# Altium footprint library lattice.PCBLIB: 10 footprints
Each footprint in its own frame and in the unit in brackets; x right, y up, seen from the top. Pads: shape width x height; smd on the part's side, far side on the other; paste and mask are expansions set on the pad; w line width, h text height; cw(c..) or ccw(c..) is an arc to the next point about the centre after c.
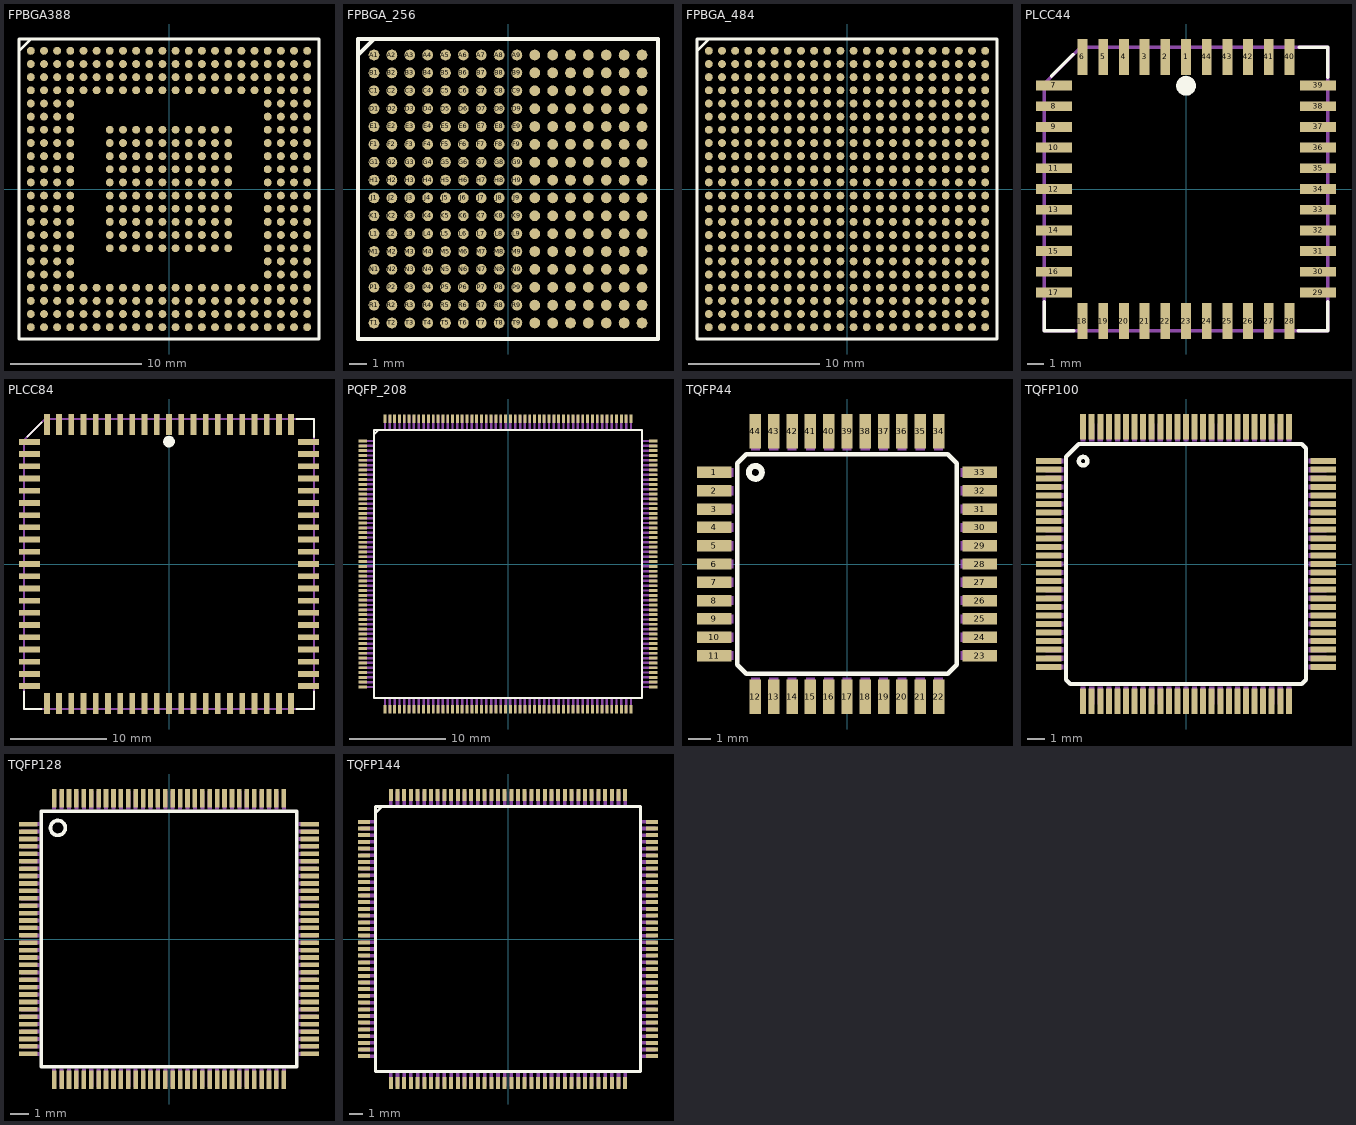
[diagram p0: the footprints below, top view; thin cyan lines are the x and y axes]

## FPBGA388 [mm]
pads (388):
  rrect100% 0.6x0.6 smd: A1(-10.5,10.5) A2(-9.5,10.5) A3(-8.5,10.5) A4(-7.5,10.5) A5(-6.5,10.5) A6(-5.5,10.5) A7(-4.5,10.5) A8(-3.5,10.5) A9(-2.5,10.5) A10(-1.5,10.5) A11(-0.5,10.5) A12(0.5,10.5) A13(1.5,10.5) A14(2.5,10.5) A15(3.5,10.5) A16(4.5,10.5) A17(5.5,10.5) A18(6.5,10.5) A19(7.5,10.5) A20(8.5,10.5) A21(9.5,10.5) A22(10.5,10.5) AA1(-10.5,-9.5) AA2(-9.5,-9.5) AA3(-8.5,-9.5) AA4(-7.5,-9.5) AA5(-6.5,-9.5) AA6(-5.5,-9.5) AA7(-4.5,-9.5) AA8(-3.5,-9.5) AA9(-2.5,-9.5) AA10(-1.5,-9.5) AA11(-0.5,-9.5) AA12(0.5,-9.5) AA13(1.5,-9.5) AA14(2.5,-9.5) AA15(3.5,-9.5) AA16(4.5,-9.5) AA17(5.5,-9.5) AA18(6.5,-9.5) AA19(7.5,-9.5) AA20(8.5,-9.5) AA21(9.5,-9.5) AA22(10.5,-9.5) AB1(-10.5,-10.5) AB2(-9.5,-10.5) AB3(-8.5,-10.5) AB4(-7.5,-10.5) AB5(-6.5,-10.5) AB6(-5.5,-10.5) AB7(-4.5,-10.5) AB8(-3.5,-10.5) AB9(-2.5,-10.5) AB10(-1.5,-10.5) AB11(-0.5,-10.5) AB12(0.5,-10.5) AB13(1.5,-10.5) AB14(2.5,-10.5) AB15(3.5,-10.5) AB16(4.5,-10.5) AB17(5.5,-10.5) AB18(6.5,-10.5) AB19(7.5,-10.5) AB20(8.5,-10.5) AB21(9.5,-10.5) AB22(10.5,-10.5) B1(-10.5,9.5) B2(-9.5,9.5) B3(-8.5,9.5) B4(-7.5,9.5) B5(-6.5,9.5) B6(-5.5,9.5) B7(-4.5,9.5) B8(-3.5,9.5) B9(-2.5,9.5) B10(-1.5,9.5) B11(-0.5,9.5) B12(0.5,9.5) B13(1.5,9.5) B14(2.5,9.5) B15(3.5,9.5) B16(4.5,9.5) B17(5.5,9.5) B18(6.5,9.5) B19(7.5,9.5) B20(8.5,9.5) B21(9.5,9.5) B22(10.5,9.5) C1(-10.5,8.5) C2(-9.5,8.5) C3(-8.5,8.5) C4(-7.5,8.5) C5(-6.5,8.5) C6(-5.5,8.5) C7(-4.5,8.5) C8(-3.5,8.5) C9(-2.5,8.5) C10(-1.5,8.5) C11(-0.5,8.5) C12(0.5,8.5) C13(1.5,8.5) C14(2.5,8.5) C15(3.5,8.5) C16(4.5,8.5) C17(5.5,8.5) C18(6.5,8.5) C19(7.5,8.5) C20(8.5,8.5) C21(9.5,8.5) C22(10.5,8.5) D1(-10.5,7.5) D2(-9.5,7.5) D3(-8.5,7.5) D4(-7.5,7.5) D5(-6.5,7.5) D6(-5.5,7.5) D7(-4.5,7.5) D8(-3.5,7.5) D9(-2.5,7.5) D10(-1.5,7.5) D11(-0.5,7.5) D12(0.5,7.5) D13(1.5,7.5) D14(2.5,7.5) D15(3.5,7.5) D16(4.5,7.5) D17(5.5,7.5) D18(6.5,7.5) D19(7.5,7.5) D20(8.5,7.5) D21(9.5,7.5) D22(10.5,7.5) E1(-10.5,6.5) E2(-9.5,6.5) E3(-8.5,6.5) E4(-7.5,6.5) E19(7.5,6.5) E20(8.5,6.5) E21(9.5,6.5) E22(10.5,6.5) F1(-10.5,5.5) F2(-9.5,5.5) F3(-8.5,5.5) F4(-7.5,5.5) F19(7.5,5.5) F20(8.5,5.5) F21(9.5,5.5) F22(10.5,5.5) G1(-10.5,4.5) G2(-9.5,4.5) G3(-8.5,4.5) G4(-7.5,4.5) G7(-4.5,4.5) G8(-3.5,4.5) G9(-2.5,4.5) G10(-1.5,4.5) G11(-0.5,4.5) G12(0.5,4.5) G13(1.5,4.5) G14(2.5,4.5) G15(3.5,4.5) G16(4.5,4.5) G19(7.5,4.5) G20(8.5,4.5) G21(9.5,4.5) G22(10.5,4.5) H1(-10.5,3.5) H2(-9.5,3.5) H3(-8.5,3.5) H4(-7.5,3.5) H7(-4.5,3.5) H8(-3.5,3.5) H9(-2.5,3.5) H10(-1.5,3.5) H11(-0.5,3.5) H12(0.5,3.5) H13(1.5,3.5) H14(2.5,3.5) H15(3.5,3.5) H16(4.5,3.5) H19(7.5,3.5) H20(8.5,3.5) H21(9.5,3.5) H22(10.5,3.5) J1(-10.5,2.5) J2(-9.5,2.5) J3(-8.5,2.5) J4(-7.5,2.5) J7(-4.5,2.5) J8(-3.5,2.5) J9(-2.5,2.5) J10(-1.5,2.5) J11(-0.5,2.5) J12(0.5,2.5) J13(1.5,2.5) J14(2.5,2.5) J15(3.5,2.5) J16(4.5,2.5) J19(7.5,2.5) J20(8.5,2.5) J21(9.5,2.5) J22(10.5,2.5) K1(-10.5,1.5) K2(-9.5,1.5) K3(-8.5,1.5) K4(-7.5,1.5) K7(-4.5,1.5) K8(-3.5,1.5) K9(-2.5,1.5) K10(-1.5,1.5) K11(-0.5,1.5) K12(0.5,1.5) K13(1.5,1.5) K14(2.5,1.5) K15(3.5,1.5) K16(4.5,1.5) K19(7.5,1.5) K20(8.5,1.5) K21(9.5,1.5) K22(10.5,1.5) L1(-10.5,0.5) L2(-9.5,0.5) L3(-8.5,0.5) L4(-7.5,0.5) L7(-4.5,0.5) L8(-3.5,0.5) L9(-2.5,0.5) L10(-1.5,0.5) L11(-0.5,0.5) L12(0.5,0.5) L13(1.5,0.5) L14(2.5,0.5) L15(3.5,0.5) L16(4.5,0.5) L19(7.5,0.5) L20(8.5,0.5) L21(9.5,0.5) L22(10.5,0.5) M1(-10.5,-0.5) M2(-9.5,-0.5) M3(-8.5,-0.5) M4(-7.5,-0.5) M7(-4.5,-0.5) M8(-3.5,-0.5) M9(-2.5,-0.5) M10(-1.5,-0.5) M11(-0.5,-0.5) M12(0.5,-0.5) M13(1.5,-0.5) M14(2.5,-0.5) M15(3.5,-0.5) M16(4.5,-0.5) M19(7.5,-0.5) M20(8.5,-0.5) M21(9.5,-0.5) M22(10.5,-0.5) N1(-10.5,-1.5) N2(-9.5,-1.5) N3(-8.5,-1.5) N4(-7.5,-1.5) N7(-4.5,-1.5) N8(-3.5,-1.5) N9(-2.5,-1.5) N10(-1.5,-1.5) N11(-0.5,-1.5) N12(0.5,-1.5) N13(1.5,-1.5) N14(2.5,-1.5) N15(3.5,-1.5) N16(4.5,-1.5) N19(7.5,-1.5) N20(8.5,-1.5) N21(9.5,-1.5) N22(10.5,-1.5) P1(-10.5,-2.5) P2(-9.5,-2.5) P3(-8.5,-2.5) P4(-7.5,-2.5) P7(-4.5,-2.5) P8(-3.5,-2.5) P9(-2.5,-2.5) P10(-1.5,-2.5) P11(-0.5,-2.5) P12(0.5,-2.5) P13(1.5,-2.5) P14(2.5,-2.5) P15(3.5,-2.5) P16(4.5,-2.5) P19(7.5,-2.5) P20(8.5,-2.5) P21(9.5,-2.5) P22(10.5,-2.5) R1(-10.5,-3.5) R2(-9.5,-3.5) R3(-8.5,-3.5) R4(-7.5,-3.5) R7(-4.5,-3.5) R8(-3.5,-3.5) R9(-2.5,-3.5) R10(-1.5,-3.5) R11(-0.5,-3.5) R12(0.5,-3.5) R13(1.5,-3.5) R14(2.5,-3.5) R15(3.5,-3.5) R16(4.5,-3.5) R19(7.5,-3.5) R20(8.5,-3.5) R21(9.5,-3.5) R22(10.5,-3.5) T1(-10.5,-4.5) T2(-9.5,-4.5) T3(-8.5,-4.5) T4(-7.5,-4.5) T7(-4.5,-4.5) T8(-3.5,-4.5) T9(-2.5,-4.5) T10(-1.5,-4.5) T11(-0.5,-4.5) T12(0.5,-4.5) T13(1.5,-4.5) T14(2.5,-4.5) T15(3.5,-4.5) T16(4.5,-4.5) T19(7.5,-4.5) T20(8.5,-4.5) T21(9.5,-4.5) T22(10.5,-4.5) U1(-10.5,-5.5) U2(-9.5,-5.5) U3(-8.5,-5.5) U4(-7.5,-5.5) U19(7.5,-5.5) U20(8.5,-5.5) U21(9.5,-5.5) U22(10.5,-5.5) V1(-10.5,-6.5) V2(-9.5,-6.5) V3(-8.5,-6.5) V4(-7.5,-6.5) V19(7.5,-6.5) V20(8.5,-6.5) V21(9.5,-6.5) V22(10.5,-6.5) W1(-10.5,-7.5) W2(-9.5,-7.5) W3(-8.5,-7.5) W4(-7.5,-7.5) W5(-6.5,-7.5) W6(-5.5,-7.5) W7(-4.5,-7.5) W8(-3.5,-7.5) W9(-2.5,-7.5) W10(-1.5,-7.5) W11(-0.5,-7.5) W12(0.5,-7.5) W13(1.5,-7.5) W14(2.5,-7.5) W15(3.5,-7.5) W16(4.5,-7.5) W17(5.5,-7.5) W18(6.5,-7.5) W19(7.5,-7.5) W20(8.5,-7.5) W21(9.5,-7.5) W22(10.5,-7.5) Y1(-10.5,-8.5) Y2(-9.5,-8.5) Y3(-8.5,-8.5) Y4(-7.5,-8.5) Y5(-6.5,-8.5) Y6(-5.5,-8.5) Y7(-4.5,-8.5) Y8(-3.5,-8.5) Y9(-2.5,-8.5) Y10(-1.5,-8.5) Y11(-0.5,-8.5) Y12(0.5,-8.5) Y13(1.5,-8.5) Y14(2.5,-8.5) Y15(3.5,-8.5) Y16(4.5,-8.5) Y17(5.5,-8.5) Y18(6.5,-8.5) Y19(7.5,-8.5) Y20(8.5,-8.5) Y21(9.5,-8.5) Y22(10.5,-8.5)
Top Overlay:
  lines w0.203: -11.399,10.5 -11.399,11.399 -10.5,11.399 ; -11.399,10.5 -11.399,-11.399 11.399,-11.399 11.399,11.399 -10.5,11.399 ; -11.399,10.5 -10.5,11.399
Top Solder:
  drawing of 388 lines, arcs and shapes, not listed

## FPBGA_256 [mm]
pads (256):
  rrect100% 0.6x0.6 smd: A1(-7.5,7.5) A2(-6.5,7.5) A3(-5.5,7.5) A4(-4.5,7.5) A5(-3.5,7.5) A6(-2.5,7.5) A7(-1.5,7.5) A8(-0.5,7.5) A9(0.5,7.5) A10(1.5,7.5) A11(2.5,7.5) A12(3.5,7.5) A13(4.5,7.5) A14(5.5,7.5) A15(6.5,7.5) A16(7.5,7.5) B1(-7.5,6.5) B2(-6.5,6.5) B3(-5.5,6.5) B4(-4.5,6.5) B5(-3.5,6.5) B6(-2.5,6.5) B7(-1.5,6.5) B8(-0.5,6.5) B9(0.5,6.5) B10(1.5,6.5) B11(2.5,6.5) B12(3.5,6.5) B13(4.5,6.5) B14(5.5,6.5) B15(6.5,6.5) B16(7.5,6.5) C1(-7.5,5.5) C2(-6.5,5.5) C3(-5.5,5.5) C4(-4.5,5.5) C5(-3.5,5.5) C6(-2.5,5.5) C7(-1.5,5.5) C8(-0.5,5.5) C9(0.5,5.5) C10(1.5,5.5) C11(2.5,5.5) C12(3.5,5.5) C13(4.5,5.5) C14(5.5,5.5) C15(6.5,5.5) C16(7.5,5.5) D1(-7.5,4.5) D2(-6.5,4.5) D3(-5.5,4.5) D4(-4.5,4.5) D5(-3.5,4.5) D6(-2.5,4.5) D7(-1.5,4.5) D8(-0.5,4.5) D9(0.5,4.5) D10(1.5,4.5) D11(2.5,4.5) D12(3.5,4.5) D13(4.5,4.5) D14(5.5,4.5) D15(6.5,4.5) D16(7.5,4.5) E1(-7.5,3.5) E2(-6.5,3.5) E3(-5.5,3.5) E4(-4.5,3.5) E5(-3.5,3.5) E6(-2.5,3.5) E7(-1.5,3.5) E8(-0.5,3.5) E9(0.5,3.5) E10(1.5,3.5) E11(2.5,3.5) E12(3.5,3.5) E13(4.5,3.5) E14(5.5,3.5) E15(6.5,3.5) E16(7.5,3.5) F1(-7.5,2.5) F2(-6.5,2.5) F3(-5.5,2.5) F4(-4.5,2.5) F5(-3.5,2.5) F6(-2.5,2.5) F7(-1.5,2.5) F8(-0.5,2.5) F9(0.5,2.5) F10(1.5,2.5) F11(2.5,2.5) F12(3.5,2.5) F13(4.5,2.5) F14(5.5,2.5) F15(6.5,2.5) F16(7.5,2.5) G1(-7.5,1.5) G2(-6.5,1.5) G3(-5.5,1.5) G4(-4.5,1.5) G5(-3.5,1.5) G6(-2.5,1.5) G7(-1.5,1.5) G8(-0.5,1.5) G9(0.5,1.5) G10(1.5,1.5) G11(2.5,1.5) G12(3.5,1.5) G13(4.5,1.5) G14(5.5,1.5) G15(6.5,1.5) G16(7.5,1.5) H1(-7.5,0.5) H2(-6.5,0.5) H3(-5.5,0.5) H4(-4.5,0.5) H5(-3.5,0.5) H6(-2.5,0.5) H7(-1.5,0.5) H8(-0.5,0.5) H9(0.5,0.5) H10(1.5,0.5) H11(2.5,0.5) H12(3.5,0.5) H13(4.5,0.5) H14(5.5,0.5) H15(6.5,0.5) H16(7.5,0.5) J1(-7.5,-0.5) J2(-6.5,-0.5) J3(-5.5,-0.5) J4(-4.5,-0.5) J5(-3.5,-0.5) J6(-2.5,-0.5) J7(-1.5,-0.5) J8(-0.5,-0.5) J9(0.5,-0.5) J10(1.5,-0.5) J11(2.5,-0.5) J12(3.5,-0.5) J13(4.5,-0.5) J14(5.5,-0.5) J15(6.5,-0.5) J16(7.5,-0.5) K1(-7.5,-1.5) K2(-6.5,-1.5) K3(-5.5,-1.5) K4(-4.5,-1.5) K5(-3.5,-1.5) K6(-2.5,-1.5) K7(-1.5,-1.5) K8(-0.5,-1.5) K9(0.5,-1.5) K10(1.5,-1.5) K11(2.5,-1.5) K12(3.5,-1.5) K13(4.5,-1.5) K14(5.5,-1.5) K15(6.5,-1.5) K16(7.5,-1.5) L1(-7.5,-2.5) L2(-6.5,-2.5) L3(-5.5,-2.5) L4(-4.5,-2.5) L5(-3.5,-2.5) L6(-2.5,-2.5) L7(-1.5,-2.5) L8(-0.5,-2.5) L9(0.5,-2.5) L10(1.5,-2.5) L11(2.5,-2.5) L12(3.5,-2.5) L13(4.5,-2.5) L14(5.5,-2.5) L15(6.5,-2.5) L16(7.5,-2.5) M1(-7.5,-3.5) M2(-6.5,-3.5) M3(-5.5,-3.5) M4(-4.5,-3.5) M5(-3.5,-3.5) M6(-2.5,-3.5) M7(-1.5,-3.5) M8(-0.5,-3.5) M9(0.5,-3.5) M10(1.5,-3.5) M11(2.5,-3.5) M12(3.5,-3.5) M13(4.5,-3.5) M14(5.5,-3.5) M15(6.5,-3.5) M16(7.5,-3.5) N1(-7.5,-4.5) N2(-6.5,-4.5) N3(-5.5,-4.5) N4(-4.5,-4.5) N5(-3.5,-4.5) N6(-2.5,-4.5) N7(-1.5,-4.5) N8(-0.5,-4.5) N9(0.5,-4.5) N10(1.5,-4.5) N11(2.5,-4.5) N12(3.5,-4.5) N13(4.5,-4.5) N14(5.5,-4.5) N15(6.5,-4.5) N16(7.5,-4.5) P1(-7.5,-5.5) P2(-6.5,-5.5) P3(-5.5,-5.5) P4(-4.5,-5.5) P5(-3.5,-5.5) P6(-2.5,-5.5) P7(-1.5,-5.5) P8(-0.5,-5.5) P9(0.5,-5.5) P10(1.5,-5.5) P11(2.5,-5.5) P12(3.5,-5.5) P13(4.5,-5.5) P14(5.5,-5.5) P15(6.5,-5.5) P16(7.5,-5.5) R1(-7.5,-6.5) R2(-6.5,-6.5) R3(-5.5,-6.5) R4(-4.5,-6.5) R5(-3.5,-6.5) R6(-2.5,-6.5) R7(-1.5,-6.5) R8(-0.5,-6.5) R9(0.5,-6.5) R10(1.5,-6.5) R11(2.5,-6.5) R12(3.5,-6.5) R13(4.5,-6.5) R14(5.5,-6.5) R15(6.5,-6.5) R16(7.5,-6.5) T1(-7.5,-7.5) T2(-6.5,-7.5) T3(-5.5,-7.5) T4(-4.5,-7.5) T5(-3.5,-7.5) T6(-2.5,-7.5) T7(-1.5,-7.5) T8(-0.5,-7.5) T9(0.5,-7.5) T10(1.5,-7.5) T11(2.5,-7.5) T12(3.5,-7.5) T13(4.5,-7.5) T14(5.5,-7.5) T15(6.5,-7.5) T16(7.5,-7.5)
Top Overlay:
  lines w0.203: -8.399,7.5 -7.5,8.399 ; -8.399,-8.399 8.399,-8.399 8.399,8.399 -8.399,8.399 -8.399,-8.399
Top Solder:
  drawing of 256 lines, arcs and shapes, not listed

## FPBGA_484 [mm]
pads (484):
  rrect100% 0.6x0.6 smd: A1(-10.5,10.5) A2(-9.5,10.5) A3(-8.5,10.5) A4(-7.5,10.5) A5(-6.5,10.5) A6(-5.5,10.5) A7(-4.5,10.5) A8(-3.5,10.5) A9(-2.5,10.5) A10(-1.5,10.5) A11(-0.5,10.5) A12(0.5,10.5) A13(1.5,10.5) A14(2.5,10.5) A15(3.5,10.5) A16(4.5,10.5) A17(5.5,10.5) A18(6.5,10.5) A19(7.5,10.5) A20(8.5,10.5) A21(9.5,10.5) A22(10.5,10.5) AA1(-10.5,-9.5) AA2(-9.5,-9.5) AA3(-8.5,-9.5) AA4(-7.5,-9.5) AA5(-6.5,-9.5) AA6(-5.5,-9.5) AA7(-4.5,-9.5) AA8(-3.5,-9.5) AA9(-2.5,-9.5) AA10(-1.5,-9.5) AA11(-0.5,-9.5) AA12(0.5,-9.5) AA13(1.5,-9.5) AA14(2.5,-9.5) AA15(3.5,-9.5) AA16(4.5,-9.5) AA17(5.5,-9.5) AA18(6.5,-9.5) AA19(7.5,-9.5) AA20(8.5,-9.5) AA21(9.5,-9.5) AA22(10.5,-9.5) AB1(-10.5,-10.5) AB2(-9.5,-10.5) AB3(-8.5,-10.5) AB4(-7.5,-10.5) AB5(-6.5,-10.5) AB6(-5.5,-10.5) AB7(-4.5,-10.5) AB8(-3.5,-10.5) AB9(-2.5,-10.5) AB10(-1.5,-10.5) AB11(-0.5,-10.5) AB12(0.5,-10.5) AB13(1.5,-10.5) AB14(2.5,-10.5) AB15(3.5,-10.5) AB16(4.5,-10.5) AB17(5.5,-10.5) AB18(6.5,-10.5) AB19(7.5,-10.5) AB20(8.5,-10.5) AB21(9.5,-10.5) AB22(10.5,-10.5) B1(-10.5,9.5) B2(-9.5,9.5) B3(-8.5,9.5) B4(-7.5,9.5) B5(-6.5,9.5) B6(-5.5,9.5) B7(-4.5,9.5) B8(-3.5,9.5) B9(-2.5,9.5) B10(-1.5,9.5) B11(-0.5,9.5) B12(0.5,9.5) B13(1.5,9.5) B14(2.5,9.5) B15(3.5,9.5) B16(4.5,9.5) B17(5.5,9.5) B18(6.5,9.5) B19(7.5,9.5) B20(8.5,9.5) B21(9.5,9.5) B22(10.5,9.5) C1(-10.5,8.5) C2(-9.5,8.5) C3(-8.5,8.5) C4(-7.5,8.5) C5(-6.5,8.5) C6(-5.5,8.5) C7(-4.5,8.5) C8(-3.5,8.5) C9(-2.5,8.5) C10(-1.5,8.5) C11(-0.5,8.5) C12(0.5,8.5) C13(1.5,8.5) C14(2.5,8.5) C15(3.5,8.5) C16(4.5,8.5) C17(5.5,8.5) C18(6.5,8.5) C19(7.5,8.5) C20(8.5,8.5) C21(9.5,8.5) C22(10.5,8.5) D1(-10.5,7.5) D2(-9.5,7.5) D3(-8.5,7.5) D4(-7.5,7.5) D5(-6.5,7.5) D6(-5.5,7.5) D7(-4.5,7.5) D8(-3.5,7.5) D9(-2.5,7.5) D10(-1.5,7.5) D11(-0.5,7.5) D12(0.5,7.5) D13(1.5,7.5) D14(2.5,7.5) D15(3.5,7.5) D16(4.5,7.5) D17(5.5,7.5) D18(6.5,7.5) D19(7.5,7.5) D20(8.5,7.5) D21(9.5,7.5) D22(10.5,7.5) E1(-10.5,6.5) E2(-9.5,6.5) E3(-8.5,6.5) E4(-7.5,6.5) E5(-6.5,6.5) E6(-5.5,6.5) E7(-4.5,6.5) E8(-3.5,6.5) E9(-2.5,6.5) E10(-1.5,6.5) E11(-0.5,6.5) E12(0.5,6.5) E13(1.5,6.5) E14(2.5,6.5) E15(3.5,6.5) E16(4.5,6.5) E17(5.5,6.5) E18(6.5,6.5) E19(7.5,6.5) E20(8.5,6.5) E21(9.5,6.5) E22(10.5,6.5) F1(-10.5,5.5) F2(-9.5,5.5) F3(-8.5,5.5) F4(-7.5,5.5) F5(-6.5,5.5) F6(-5.5,5.5) F7(-4.5,5.5) F8(-3.5,5.5) F9(-2.5,5.5) F10(-1.5,5.5) F11(-0.5,5.5) F12(0.5,5.5) F13(1.5,5.5) F14(2.5,5.5) F15(3.5,5.5) F16(4.5,5.5) F17(5.5,5.5) F18(6.5,5.5) F19(7.5,5.5) F20(8.5,5.5) F21(9.5,5.5) F22(10.5,5.5) G1(-10.5,4.5) G2(-9.5,4.5) G3(-8.5,4.5) G4(-7.5,4.5) G5(-6.5,4.5) G6(-5.5,4.5) G7(-4.5,4.5) G8(-3.5,4.5) G9(-2.5,4.5) G10(-1.5,4.5) G11(-0.5,4.5) G12(0.5,4.5) G13(1.5,4.5) G14(2.5,4.5) G15(3.5,4.5) G16(4.5,4.5) G17(5.5,4.5) G18(6.5,4.5) G19(7.5,4.5) G20(8.5,4.5) G21(9.5,4.5) G22(10.5,4.5) H1(-10.5,3.5) H2(-9.5,3.5) H3(-8.5,3.5) H4(-7.5,3.5) H5(-6.5,3.5) H6(-5.5,3.5) H7(-4.5,3.5) H8(-3.5,3.5) H9(-2.5,3.5) H10(-1.5,3.5) H11(-0.5,3.5) H12(0.5,3.5) H13(1.5,3.5) H14(2.5,3.5) H15(3.5,3.5) H16(4.5,3.5) H17(5.5,3.5) H18(6.5,3.5) H19(7.5,3.5) H20(8.5,3.5) H21(9.5,3.5) H22(10.5,3.5) J1(-10.5,2.5) J2(-9.5,2.5) J3(-8.5,2.5) J4(-7.5,2.5) J5(-6.5,2.5) J6(-5.5,2.5) J7(-4.5,2.5) J8(-3.5,2.5) J9(-2.5,2.5) J10(-1.5,2.5) J11(-0.5,2.5) J12(0.5,2.5) J13(1.5,2.5) J14(2.5,2.5) J15(3.5,2.5) J16(4.5,2.5) J17(5.5,2.5) J18(6.5,2.5) J19(7.5,2.5) J20(8.5,2.5) J21(9.5,2.5) J22(10.5,2.5) K1(-10.5,1.5) K2(-9.5,1.5) K3(-8.5,1.5) K4(-7.5,1.5) K5(-6.5,1.5) K6(-5.5,1.5) K7(-4.5,1.5) K8(-3.5,1.5) K9(-2.5,1.5) K10(-1.5,1.5) K11(-0.5,1.5) K12(0.5,1.5) K13(1.5,1.5) K14(2.5,1.5) K15(3.5,1.5) K16(4.5,1.5) K17(5.5,1.5) K18(6.5,1.5) K19(7.5,1.5) K20(8.5,1.5) K21(9.5,1.5) K22(10.5,1.5) L1(-10.5,0.5) L2(-9.5,0.5) L3(-8.5,0.5) L4(-7.5,0.5) L5(-6.5,0.5) L6(-5.5,0.5) L7(-4.5,0.5) L8(-3.5,0.5) L9(-2.5,0.5) L10(-1.5,0.5) L11(-0.5,0.5) L12(0.5,0.5) L13(1.5,0.5) L14(2.5,0.5) L15(3.5,0.5) L16(4.5,0.5) L17(5.5,0.5) L18(6.5,0.5) L19(7.5,0.5) L20(8.5,0.5) L21(9.5,0.5) L22(10.5,0.5) M1(-10.5,-0.5) M2(-9.5,-0.5) M3(-8.5,-0.5) M4(-7.5,-0.5) M5(-6.5,-0.5) M6(-5.5,-0.5) M7(-4.5,-0.5) M8(-3.5,-0.5) M9(-2.5,-0.5) M10(-1.5,-0.5) M11(-0.5,-0.5) M12(0.5,-0.5) M13(1.5,-0.5) M14(2.5,-0.5) M15(3.5,-0.5) M16(4.5,-0.5) M17(5.5,-0.5) M18(6.5,-0.5) M19(7.5,-0.5) M20(8.5,-0.5) M21(9.5,-0.5) M22(10.5,-0.5) N1(-10.5,-1.5) N2(-9.5,-1.5) N3(-8.5,-1.5) N4(-7.5,-1.5) N5(-6.5,-1.5) N6(-5.5,-1.5) N7(-4.5,-1.5) N8(-3.5,-1.5) N9(-2.5,-1.5) N10(-1.5,-1.5) N11(-0.5,-1.5) N12(0.5,-1.5) N13(1.5,-1.5) N14(2.5,-1.5) N15(3.5,-1.5) N16(4.5,-1.5) N17(5.5,-1.5) N18(6.5,-1.5) N19(7.5,-1.5) N20(8.5,-1.5) N21(9.5,-1.5) N22(10.5,-1.5) P1(-10.5,-2.5) P2(-9.5,-2.5) P3(-8.5,-2.5) P4(-7.5,-2.5) P5(-6.5,-2.5) P6(-5.5,-2.5) P7(-4.5,-2.5) P8(-3.5,-2.5) P9(-2.5,-2.5) P10(-1.5,-2.5) P11(-0.5,-2.5) P12(0.5,-2.5) P13(1.5,-2.5) P14(2.5,-2.5) P15(3.5,-2.5) P16(4.5,-2.5) P17(5.5,-2.5) P18(6.5,-2.5) P19(7.5,-2.5) P20(8.5,-2.5) P21(9.5,-2.5) P22(10.5,-2.5) R1(-10.5,-3.5) R2(-9.5,-3.5) R3(-8.5,-3.5) R4(-7.5,-3.5) R5(-6.5,-3.5) R6(-5.5,-3.5) R7(-4.5,-3.5) R8(-3.5,-3.5) R9(-2.5,-3.5) R10(-1.5,-3.5) R11(-0.5,-3.5) R12(0.5,-3.5) R13(1.5,-3.5) R14(2.5,-3.5) R15(3.5,-3.5) R16(4.5,-3.5) R17(5.5,-3.5) R18(6.5,-3.5) R19(7.5,-3.5) R20(8.5,-3.5) R21(9.5,-3.5) R22(10.5,-3.5) T1(-10.5,-4.5) T2(-9.5,-4.5) T3(-8.5,-4.5) T4(-7.5,-4.5) T5(-6.5,-4.5) T6(-5.5,-4.5) T7(-4.5,-4.5) T8(-3.5,-4.5) T9(-2.5,-4.5) T10(-1.5,-4.5) T11(-0.5,-4.5) T12(0.5,-4.5) T13(1.5,-4.5) T14(2.5,-4.5) T15(3.5,-4.5) T16(4.5,-4.5) T17(5.5,-4.5) T18(6.5,-4.5) T19(7.5,-4.5) T20(8.5,-4.5) T21(9.5,-4.5) T22(10.5,-4.5) U1(-10.5,-5.5) U2(-9.5,-5.5) U3(-8.5,-5.5) U4(-7.5,-5.5) U5(-6.5,-5.5) U6(-5.5,-5.5) U7(-4.5,-5.5) U8(-3.5,-5.5) U9(-2.5,-5.5) U10(-1.5,-5.5) U11(-0.5,-5.5) U12(0.5,-5.5) U13(1.5,-5.5) U14(2.5,-5.5) U15(3.5,-5.5) U16(4.5,-5.5) U17(5.5,-5.5) U18(6.5,-5.5) U19(7.5,-5.5) U20(8.5,-5.5) U21(9.5,-5.5) U22(10.5,-5.5) V1(-10.5,-6.5) V2(-9.5,-6.5) V3(-8.5,-6.5) V4(-7.5,-6.5) V5(-6.5,-6.5) V6(-5.5,-6.5) V7(-4.5,-6.5) V8(-3.5,-6.5) V9(-2.5,-6.5) V10(-1.5,-6.5) V11(-0.5,-6.5) V12(0.5,-6.5) V13(1.5,-6.5) V14(2.5,-6.5) V15(3.5,-6.5) V16(4.5,-6.5) V17(5.5,-6.5) V18(6.5,-6.5) V19(7.5,-6.5) V20(8.5,-6.5) V21(9.5,-6.5) V22(10.5,-6.5) W1(-10.5,-7.5) W2(-9.5,-7.5) W3(-8.5,-7.5) W4(-7.5,-7.5) W5(-6.5,-7.5) W6(-5.5,-7.5) W7(-4.5,-7.5) W8(-3.5,-7.5) W9(-2.5,-7.5) W10(-1.5,-7.5) W11(-0.5,-7.5) W12(0.5,-7.5) W13(1.5,-7.5) W14(2.5,-7.5) W15(3.5,-7.5) W16(4.5,-7.5) W17(5.5,-7.5) W18(6.5,-7.5) W19(7.5,-7.5) W20(8.5,-7.5) W21(9.5,-7.5) W22(10.5,-7.5) Y1(-10.5,-8.5) Y2(-9.5,-8.5) Y3(-8.5,-8.5) Y4(-7.5,-8.5) Y5(-6.5,-8.5) Y6(-5.5,-8.5) Y7(-4.5,-8.5) Y8(-3.5,-8.5) Y9(-2.5,-8.5) Y10(-1.5,-8.5) Y11(-0.5,-8.5) Y12(0.5,-8.5) Y13(1.5,-8.5) Y14(2.5,-8.5) Y15(3.5,-8.5) Y16(4.5,-8.5) Y17(5.5,-8.5) Y18(6.5,-8.5) Y19(7.5,-8.5) Y20(8.5,-8.5) Y21(9.5,-8.5) Y22(10.5,-8.5)
Top Overlay:
  lines w0.203: -11.399,10.5 -11.399,11.399 -10.5,11.399 ; -11.399,10.5 -11.399,-11.399 11.399,-11.399 11.399,11.399 -10.5,11.399 ; -11.399,10.5 -10.5,11.399
Top Solder:
  drawing of 484 lines, arcs and shapes, not listed

## PLCC44 [mm]
pads (44):
  rect 0.6x2.2 smd: 1(0,8.1) 2(-1.27,8.1) 3(-2.54,8.1) 4(-3.81,8.1) 5(-5.08,8.1) 6(-6.35,8.1) 18(-6.35,-8.1) 19(-5.08,-8.1) 20(-3.81,-8.1) 21(-2.54,-8.1) 22(-1.27,-8.1) 23(0,-8.1) 24(1.27,-8.1) 25(2.54,-8.1) 26(3.81,-8.1) 27(5.08,-8.1) 28(6.35,-8.1) 40(6.35,8.1) 41(5.08,8.1) 42(3.81,8.1) 43(2.54,8.1) 44(1.27,8.1)
  rect 2.2x0.6 smd: 7(-8.1,6.35) 8(-8.1,5.08) 9(-8.1,3.81) 10(-8.1,2.54) 11(-8.1,1.27) 12(-8.1,0) 13(-8.1,-1.27) 14(-8.1,-2.54) 15(-8.1,-3.81) 16(-8.1,-5.08) 17(-8.1,-6.35) 29(8.1,-6.35) 30(8.1,-5.08) 31(8.1,-3.81) 32(8.1,-2.54) 33(8.1,-1.27) 34(8.1,0) 35(8.1,1.27) 36(8.1,2.54) 37(8.1,3.81) 38(8.1,5.08) 39(8.1,6.35)
Top Overlay:
  circle w0.61: c0,6.33 r0.3
  lines w0.203: -8.687,-6.909 -8.687,-8.687 -6.883,-8.687 ; -8.255,6.909 -6.909,8.255 ; 6.883,-8.687 8.687,-8.687 8.687,-6.909 ; 6.934,8.687 8.687,8.687 8.687,6.858
Mechanical 16:
  rectangle: -0.26,8.75 0.26,9.2
  rectangle: -1.53,8.75 -1.01,9.2
  rectangle: -2.8,8.75 -2.28,9.2
  rectangle: -4.07,8.75 -3.55,9.2
  rectangle: -5.34,8.75 -4.82,9.2
  rectangle: -6.61,8.75 -6.09,9.2
  rectangle: -9.2,6.09 -8.75,6.61
  rectangle: -9.2,4.82 -8.75,5.34
  rectangle: -9.2,3.55 -8.75,4.07
  rectangle: -9.2,2.28 -8.75,2.8
  rectangle: -9.2,1.01 -8.75,1.53
  rectangle: -9.2,-0.26 -8.75,0.26
  rectangle: -9.2,-1.53 -8.75,-1.01
  rectangle: -9.2,-2.8 -8.75,-2.28
  rectangle: -9.2,-4.07 -8.75,-3.55
  rectangle: -9.2,-5.34 -8.75,-4.82
  rectangle: -9.2,-6.61 -8.75,-6.09
  rectangle: -6.61,-9.2 -6.09,-8.75
  rectangle: -5.34,-9.2 -4.82,-8.75
  rectangle: -4.07,-9.2 -3.55,-8.75
  rectangle: -2.8,-9.2 -2.28,-8.75
  rectangle: -1.53,-9.2 -1.01,-8.75
  rectangle: -0.26,-9.2 0.26,-8.75
  rectangle: 1.01,-9.2 1.53,-8.75
  rectangle: 2.28,-9.2 2.8,-8.75
  rectangle: 3.55,-9.2 4.07,-8.75
  rectangle: 4.82,-9.2 5.34,-8.75
  rectangle: 6.09,-9.2 6.61,-8.75
  rectangle: 8.75,-6.61 9.2,-6.09
  rectangle: 8.75,-5.34 9.2,-4.82
  rectangle: 8.75,-4.07 9.2,-3.55
  rectangle: 8.75,-2.8 9.2,-2.28
  rectangle: 8.75,-1.53 9.2,-1.01
  rectangle: 8.75,-0.26 9.2,0.26
  rectangle: 8.75,1.01 9.2,1.53
  rectangle: 8.75,2.28 9.2,2.8
  rectangle: 8.75,3.55 9.2,4.07
  rectangle: 8.75,4.82 9.2,5.34
  rectangle: 8.75,6.09 9.2,6.61
  rectangle: 6.09,8.75 6.61,9.2
  rectangle: 4.82,8.75 5.34,9.2
  rectangle: 3.55,8.75 4.07,9.2
  rectangle: 2.28,8.75 2.8,9.2
  rectangle: 1.01,8.75 1.53,9.2
  lines w0.203: -8.7,-8.7 -8.7,6.465 -6.465,8.7 8.7,8.7 8.7,-8.7 -8.7,-8.7

## PLCC84 [mm]
pads (84):
  rect 0.6x2.2 smd: 1(0,14.5) 2(-1.27,14.5) 3(-2.54,14.5) 4(-3.81,14.5) 5(-5.08,14.5) 6(-6.35,14.5) 7(-7.62,14.5) 8(-8.89,14.5) 9(-10.16,14.5) 10(-11.43,14.5) 11(-12.7,14.5) 33(-12.7,-14.5) 34(-11.43,-14.5) 35(-10.16,-14.5) 36(-8.89,-14.5) 37(-7.62,-14.5) 38(-6.35,-14.5) 39(-5.08,-14.5) 40(-3.81,-14.5) 41(-2.54,-14.5) 42(-1.27,-14.5) 43(0,-14.5) 44(1.27,-14.5) 45(2.54,-14.5) 46(3.81,-14.5) 47(5.08,-14.5) 48(6.35,-14.5) 49(7.62,-14.5) 50(8.89,-14.5) 51(10.16,-14.5) 52(11.43,-14.5) 53(12.7,-14.5) 75(12.7,14.5) 76(11.43,14.5) 77(10.16,14.5) 78(8.89,14.5) 79(7.62,14.5) 80(6.35,14.5) 81(5.08,14.5) 82(3.81,14.5) 83(2.54,14.5) 84(1.27,14.5)
  rect 2.2x0.6 smd: 12(-14.5,12.7) 13(-14.5,11.43) 14(-14.5,10.16) 15(-14.5,8.89) 16(-14.5,7.62) 17(-14.5,6.35) 18(-14.5,5.08) 19(-14.5,3.81) 20(-14.5,2.54) 21(-14.5,1.27) 22(-14.5,0) 23(-14.5,-1.27) 24(-14.5,-2.54) 25(-14.5,-3.81) 26(-14.5,-5.08) 27(-14.5,-6.35) 28(-14.5,-7.62) 29(-14.5,-8.89) 30(-14.5,-10.16) 31(-14.5,-11.43) 32(-14.5,-12.7) 54(14.5,-12.7) 55(14.5,-11.43) 56(14.5,-10.16) 57(14.5,-8.89) 58(14.5,-7.62) 59(14.5,-6.35) 60(14.5,-5.08) 61(14.5,-3.81) 62(14.5,-2.54) 63(14.5,-1.27) 64(14.5,0) 65(14.5,1.27) 66(14.5,2.54) 67(14.5,3.81) 68(14.5,5.08) 69(14.5,6.35) 70(14.5,7.62) 71(14.5,8.89) 72(14.5,10.16) 73(14.5,11.43) 74(14.5,12.7)
Top Overlay:
  circle w0.61: c0,12.73 r0.3
  lines w0.203: -15.088,-13.233 -15.088,-15.088 -13.259,-15.088 ; -14.732,13.233 -13.233,14.732 ; 13.233,-15.088 15.088,-15.088 15.088,-13.233 ; 13.233,15.088 15.088,15.088 15.088,13.208
Mechanical 16:
  rectangle: -0.26,15.15 0.26,15.6
  rectangle: -1.53,15.15 -1.01,15.6
  rectangle: -2.8,15.15 -2.28,15.6
  rectangle: -4.07,15.15 -3.55,15.6
  rectangle: -5.34,15.15 -4.82,15.6
  rectangle: -6.61,15.15 -6.09,15.6
  rectangle: -7.88,15.15 -7.36,15.6
  rectangle: -9.15,15.15 -8.63,15.6
  rectangle: -10.42,15.15 -9.9,15.6
  rectangle: -11.69,15.15 -11.17,15.6
  rectangle: -12.96,15.15 -12.44,15.6
  rectangle: -15.6,12.44 -15.15,12.96
  rectangle: -15.6,11.17 -15.15,11.69
  rectangle: -15.6,9.9 -15.15,10.42
  rectangle: -15.6,8.63 -15.15,9.15
  rectangle: -15.6,7.36 -15.15,7.88
  rectangle: -15.6,6.09 -15.15,6.61
  rectangle: -15.6,4.82 -15.15,5.34
  rectangle: -15.6,3.55 -15.15,4.07
  rectangle: -15.6,2.28 -15.15,2.8
  rectangle: -15.6,1.01 -15.15,1.53
  rectangle: -15.6,-0.26 -15.15,0.26
  rectangle: -15.6,-1.53 -15.15,-1.01
  rectangle: -15.6,-2.8 -15.15,-2.28
  rectangle: -15.6,-4.07 -15.15,-3.55
  rectangle: -15.6,-5.34 -15.15,-4.82
  rectangle: -15.6,-6.61 -15.15,-6.09
  rectangle: -15.6,-7.88 -15.15,-7.36
  rectangle: -15.6,-9.15 -15.15,-8.63
  rectangle: -15.6,-10.42 -15.15,-9.9
  rectangle: -15.6,-11.69 -15.15,-11.17
  rectangle: -15.6,-12.96 -15.15,-12.44
  rectangle: -12.96,-15.6 -12.44,-15.15
  rectangle: -11.69,-15.6 -11.17,-15.15
  rectangle: -10.42,-15.6 -9.9,-15.15
  rectangle: -9.15,-15.6 -8.63,-15.15
  rectangle: -7.88,-15.6 -7.36,-15.15
  rectangle: -6.61,-15.6 -6.09,-15.15
  rectangle: -5.34,-15.6 -4.82,-15.15
  rectangle: -4.07,-15.6 -3.55,-15.15
  rectangle: -2.8,-15.6 -2.28,-15.15
  rectangle: -1.53,-15.6 -1.01,-15.15
  rectangle: -0.26,-15.6 0.26,-15.15
  rectangle: 1.01,-15.6 1.53,-15.15
  rectangle: 2.28,-15.6 2.8,-15.15
  rectangle: 3.55,-15.6 4.07,-15.15
  rectangle: 4.82,-15.6 5.34,-15.15
  rectangle: 6.09,-15.6 6.61,-15.15
  rectangle: 7.36,-15.6 7.88,-15.15
  rectangle: 8.63,-15.6 9.15,-15.15
  rectangle: 9.9,-15.6 10.42,-15.15
  rectangle: 11.17,-15.6 11.69,-15.15
  rectangle: 12.44,-15.6 12.96,-15.15
  rectangle: 15.15,-12.96 15.6,-12.44
  rectangle: 15.15,-11.69 15.6,-11.17
  rectangle: 15.15,-10.42 15.6,-9.9
  rectangle: 15.15,-9.15 15.6,-8.63
  rectangle: 15.15,-7.88 15.6,-7.36
  rectangle: 15.15,-6.61 15.6,-6.09
  rectangle: 15.15,-5.34 15.6,-4.82
  rectangle: 15.15,-4.07 15.6,-3.55
  rectangle: 15.15,-2.8 15.6,-2.28
  rectangle: 15.15,-1.53 15.6,-1.01
  rectangle: 15.15,-0.26 15.6,0.26
  rectangle: 15.15,1.01 15.6,1.53
  rectangle: 15.15,2.28 15.6,2.8
  rectangle: 15.15,3.55 15.6,4.07
  rectangle: 15.15,4.82 15.6,5.34
  rectangle: 15.15,6.09 15.6,6.61
  rectangle: 15.15,7.36 15.6,7.88
  rectangle: 15.15,8.63 15.6,9.15
  rectangle: 15.15,9.9 15.6,10.42
  rectangle: 15.15,11.17 15.6,11.69
  rectangle: 15.15,12.44 15.6,12.96
  rectangle: 12.44,15.15 12.96,15.6
  rectangle: 11.17,15.15 11.69,15.6
  rectangle: 9.9,15.15 10.42,15.6
  rectangle: 8.63,15.15 9.15,15.6
  rectangle: 7.36,15.15 7.88,15.6
  rectangle: 6.09,15.15 6.61,15.6
  rectangle: 4.82,15.15 5.34,15.6
  rectangle: 3.55,15.15 4.07,15.6
  rectangle: 2.28,15.15 2.8,15.6
  rectangle: 1.01,15.15 1.53,15.6
  lines w0.203: -15.1,-15.1 -15.1,12.865 -12.865,15.1 15.1,15.1 15.1,-15.1 -15.1,-15.1

## PQFP_208 [mm]
pads (208):
  rect 0.9x0.3 smd: 1(-15.05,12.75) 2(-15.05,12.25) 3(-15.05,11.75) 4(-15.05,11.25) 5(-15.05,10.75) 6(-15.05,10.25) 7(-15.05,9.75) 8(-15.05,9.25) 9(-15.05,8.75) 10(-15.05,8.25) 11(-15.05,7.75) 12(-15.05,7.25) 13(-15.05,6.75) 14(-15.05,6.25) 15(-15.05,5.75) 16(-15.05,5.25) 17(-15.05,4.75) 18(-15.05,4.25) 19(-15.05,3.75) 20(-15.05,3.25) 21(-15.05,2.75) 22(-15.05,2.25) 23(-15.05,1.75) 24(-15.05,1.25) 25(-15.05,0.75) 26(-15.05,0.25) 27(-15.05,-0.25) 28(-15.05,-0.75) 29(-15.05,-1.25) 30(-15.05,-1.75) 31(-15.05,-2.25) 32(-15.05,-2.75) 33(-15.05,-3.25) 34(-15.05,-3.75) 35(-15.05,-4.25) 36(-15.05,-4.75) 37(-15.05,-5.25) 38(-15.05,-5.75) 39(-15.05,-6.25) 40(-15.05,-6.75) 41(-15.05,-7.25) 42(-15.05,-7.75) 43(-15.05,-8.25) 44(-15.05,-8.75) 45(-15.05,-9.25) 46(-15.05,-9.75) 47(-15.05,-10.25) 48(-15.05,-10.75) 49(-15.05,-11.25) 50(-15.05,-11.75) 51(-15.05,-12.25) 52(-15.05,-12.75) 105(15.05,-12.75) 106(15.05,-12.25) 107(15.05,-11.75) 108(15.05,-11.25) 109(15.05,-10.75) 110(15.05,-10.25) 111(15.05,-9.75) 112(15.05,-9.25) 113(15.05,-8.75) 114(15.05,-8.25) 115(15.05,-7.75) 116(15.05,-7.25) 117(15.05,-6.75) 118(15.05,-6.25) 119(15.05,-5.75) 120(15.05,-5.25) 121(15.05,-4.75) 122(15.05,-4.25) 123(15.05,-3.75) 124(15.05,-3.25) 125(15.05,-2.75) 126(15.05,-2.25) 127(15.05,-1.75) 128(15.05,-1.25) 129(15.05,-0.75) 130(15.05,-0.25) 131(15.05,0.25) 132(15.05,0.75) 133(15.05,1.25) 134(15.05,1.75) 135(15.05,2.25) 136(15.05,2.75) 137(15.05,3.25) 138(15.05,3.75) 139(15.05,4.25) 140(15.05,4.75) 141(15.05,5.25) 142(15.05,5.75) 143(15.05,6.25) 144(15.05,6.75) 145(15.05,7.25) 146(15.05,7.75) 147(15.05,8.25) 148(15.05,8.75) 149(15.05,9.25) 150(15.05,9.75) 151(15.05,10.25) 152(15.05,10.75) 153(15.05,11.25) 154(15.05,11.75) 155(15.05,12.25) 156(15.05,12.75)
  rect 0.3x0.9 smd: 53(-12.75,-15.05) 54(-12.25,-15.05) 55(-11.75,-15.05) 56(-11.25,-15.05) 57(-10.75,-15.05) 58(-10.25,-15.05) 59(-9.75,-15.05) 60(-9.25,-15.05) 61(-8.75,-15.05) 62(-8.25,-15.05) 63(-7.75,-15.05) 64(-7.25,-15.05) 65(-6.75,-15.05) 66(-6.25,-15.05) 67(-5.75,-15.05) 68(-5.25,-15.05) 69(-4.75,-15.05) 70(-4.25,-15.05) 71(-3.75,-15.05) 72(-3.25,-15.05) 73(-2.75,-15.05) 74(-2.25,-15.05) 75(-1.75,-15.05) 76(-1.25,-15.05) 77(-0.75,-15.05) 78(-0.25,-15.05) 79(0.25,-15.05) 80(0.75,-15.05) 81(1.25,-15.05) 82(1.75,-15.05) 83(2.25,-15.05) 84(2.75,-15.05) 85(3.25,-15.05) 86(3.75,-15.05) 87(4.25,-15.05) 88(4.75,-15.05) 89(5.25,-15.05) 90(5.75,-15.05) 91(6.25,-15.05) 92(6.75,-15.05) 93(7.25,-15.05) 94(7.75,-15.05) 95(8.25,-15.05) 96(8.75,-15.05) 97(9.25,-15.05) 98(9.75,-15.05) 99(10.25,-15.05) 100(10.75,-15.05) 101(11.25,-15.05) 102(11.75,-15.05) 103(12.25,-15.05) 104(12.75,-15.05) 157(12.75,15.05) 158(12.25,15.05) 159(11.75,15.05) 160(11.25,15.05) 161(10.75,15.05) 162(10.25,15.05) 163(9.75,15.05) 164(9.25,15.05) 165(8.75,15.05) 166(8.25,15.05) 167(7.75,15.05) 168(7.25,15.05) 169(6.75,15.05) 170(6.25,15.05) 171(5.75,15.05) 172(5.25,15.05) 173(4.75,15.05) 174(4.25,15.05) 175(3.75,15.05) 176(3.25,15.05) 177(2.75,15.05) 178(2.25,15.05) 179(1.75,15.05) 180(1.25,15.05) 181(0.75,15.05) 182(0.25,15.05) 183(-0.25,15.05) 184(-0.75,15.05) 185(-1.25,15.05) 186(-1.75,15.05) 187(-2.25,15.05) 188(-2.75,15.05) 189(-3.25,15.05) 190(-3.75,15.05) 191(-4.25,15.05) 192(-4.75,15.05) 193(-5.25,15.05) 194(-5.75,15.05) 195(-6.25,15.05) 196(-6.75,15.05) 197(-7.25,15.05) 198(-7.75,15.05) 199(-8.25,15.05) 200(-8.75,15.05) 201(-9.25,15.05) 202(-9.75,15.05) 203(-10.25,15.05) 204(-10.75,15.05) 205(-11.25,15.05) 206(-11.75,15.05) 207(-12.25,15.05) 208(-12.75,15.05)
Top Overlay:
  lines w0.203: -13.898,13.4 -13.4,13.898 ; -13.898,-13.898 13.898,-13.873 13.898,13.898 -13.898,13.898 -13.898,-13.898
Top Paste:
  drawing of 208 lines, arcs and shapes, not listed
Top Solder:
  drawing of 208 lines, arcs and shapes, not listed
Mechanical 16:
  drawing of 208 lines, arcs and shapes, not listed

## TQFP44 [mm]
pads (44):
  rect 1.5x0.5 smd: 1(-5.8,4) 2(-5.8,3.2) 3(-5.8,2.4) 4(-5.8,1.6) 5(-5.8,0.8) 6(-5.8,0) 7(-5.8,-0.8) 8(-5.8,-1.6) 9(-5.8,-2.4) 10(-5.8,-3.2) 11(-5.8,-4) 23(5.8,-4) 24(5.8,-3.2) 25(5.8,-2.4) 26(5.8,-1.6) 27(5.8,-0.8) 28(5.8,0) 29(5.8,0.8) 30(5.8,1.6) 31(5.8,2.4) 32(5.8,3.2) 33(5.8,4)
  rect 0.5x1.5 smd: 12(-4,-5.8) 13(-3.2,-5.8) 14(-2.4,-5.8) 15(-1.6,-5.8) 16(-0.8,-5.8) 17(0,-5.8) 18(0.8,-5.8) 19(1.6,-5.8) 20(2.4,-5.8) 21(3.2,-5.8) 22(4,-5.8) 34(4,5.8) 35(3.2,5.8) 36(2.4,5.8) 37(1.6,5.8) 38(0.8,5.8) 39(0,5.8) 40(-0.8,5.8) 41(-1.6,5.8) 42(-2.4,5.8) 43(-3.2,5.8) 44(-4,5.8)
Top Overlay:
  circle w0.254: c-4,4 r0.283
  lines w0.203: -4.8,-4.4 -4.4,-4.8 4.4,-4.8 4.8,-4.4 4.8,4.4 4.4,4.8 -4.4,4.8 -4.8,4.4 -4.8,-4.4
Mechanical 16:
  rectangle: -6.1,3.8 -4.95,4.2
  rectangle: -6.1,3 -4.95,3.4
  rectangle: -6.1,2.2 -4.95,2.6
  rectangle: -6.1,1.4 -4.95,1.8
  rectangle: -6.1,0.6 -4.95,1
  rectangle: -6.1,-0.2 -4.95,0.2
  rectangle: -6.1,-1 -4.95,-0.6
  rectangle: -6.1,-1.8 -4.95,-1.4
  rectangle: -6.1,-2.6 -4.95,-2.2
  rectangle: -6.1,-3.4 -4.95,-3
  rectangle: -6.1,-4.2 -4.95,-3.8
  rectangle: -4.2,-6.1 -3.8,-4.95
  rectangle: -3.4,-6.1 -3,-4.95
  rectangle: -2.6,-6.1 -2.2,-4.95
  rectangle: -1.8,-6.1 -1.4,-4.95
  rectangle: -1,-6.1 -0.6,-4.95
  rectangle: -0.2,-6.1 0.2,-4.95
  rectangle: 0.6,-6.1 1,-4.95
  rectangle: 1.4,-6.1 1.8,-4.95
  rectangle: 2.2,-6.1 2.6,-4.95
  rectangle: 3,-6.1 3.4,-4.95
  rectangle: 3.8,-6.1 4.2,-4.95
  rectangle: 4.95,-4.2 6.1,-3.8
  rectangle: 4.95,-3.4 6.1,-3
  rectangle: 4.95,-2.6 6.1,-2.2
  rectangle: 4.95,-1.8 6.1,-1.4
  rectangle: 4.95,-1 6.1,-0.6
  rectangle: 4.95,-0.2 6.1,0.2
  rectangle: 4.95,0.6 6.1,1
  rectangle: 4.95,1.4 6.1,1.8
  rectangle: 4.95,2.2 6.1,2.6
  rectangle: 4.95,3 6.1,3.4
  rectangle: 4.95,3.8 6.1,4.2
  rectangle: 3.8,4.95 4.2,6.1
  rectangle: 3,4.95 3.4,6.1
  rectangle: 2.2,4.95 2.6,6.1
  rectangle: 1.4,4.95 1.8,6.1
  rectangle: 0.6,4.95 1,6.1
  rectangle: -0.2,4.95 0.2,6.1
  rectangle: -1,4.95 -0.6,6.1
  rectangle: -1.8,4.95 -1.4,6.1
  rectangle: -2.6,4.95 -2.2,6.1
  rectangle: -3.4,4.95 -3,6.1
  rectangle: -4.2,4.95 -3.8,6.1

## TQFP100 [mm]
pads (100):
  rect 1.5x0.35 smd: 1(-8,6) 2(-8,5.5) 3(-8,5) 4(-8,4.5) 5(-8,4) 6(-8,3.5) 7(-8,3) 8(-8,2.5) 9(-8,2) 10(-8,1.5) 11(-8,1) 12(-8,0.5) 13(-8,0) 14(-8,-0.5) 15(-8,-1) 16(-8,-1.5) 17(-8,-2) 18(-8,-2.5) 19(-8,-3) 20(-8,-3.5) 21(-8,-4) 22(-8,-4.5) 23(-8,-5) 24(-8,-5.5) 25(-8,-6) 51(8,-6) 52(8,-5.5) 53(8,-5) 54(8,-4.5) 55(8,-4) 56(8,-3.5) 57(8,-3) 58(8,-2.5) 59(8,-2) 60(8,-1.5) 61(8,-1) 62(8,-0.5) 63(8,0) 64(8,0.5) 65(8,1) 66(8,1.5) 67(8,2) 68(8,2.5) 69(8,3) 70(8,3.5) 71(8,4) 72(8,4.5) 73(8,5) 74(8,5.5) 75(8,6)
  rect 0.35x1.5 smd: 26(-6,-8) 27(-5.5,-8) 28(-5,-8) 29(-4.5,-8) 30(-4,-8) 31(-3.5,-8) 32(-3,-8) 33(-2.5,-8) 34(-2,-8) 35(-1.5,-8) 36(-1,-8) 37(-0.5,-8) 38(0,-8) 39(0.5,-8) 40(1,-8) 41(1.5,-8) 42(2,-8) 43(2.5,-8) 44(3,-8) 45(3.5,-8) 46(4,-8) 47(4.5,-8) 48(5,-8) 49(5.5,-8) 50(6,-8) 76(6,8) 77(5.5,8) 78(5,8) 79(4.5,8) 80(4,8) 81(3.5,8) 82(3,8) 83(2.5,8) 84(2,8) 85(1.5,8) 86(1,8) 87(0.5,8) 88(0,8) 89(-0.5,8) 90(-1,8) 91(-1.5,8) 92(-2,8) 93(-2.5,8) 94(-3,8) 95(-3.5,8) 96(-4,8) 97(-4.5,8) 98(-5,8) 99(-5.5,8) 100(-6,8)
Top Overlay:
  circle w0.254: c-6,6 r0.25
  lines w0.254: -7,-6.75 -6.75,-7 6.75,-7 7,-6.75 7,6.75 6.75,7 -6.25,7 -7,6.25 -7,-6.75
Mechanical 16:
  rectangle: -8.2,5.85 -7.15,6.15
  rectangle: -8.2,5.35 -7.15,5.65
  rectangle: -8.2,4.85 -7.15,5.15
  rectangle: -8.2,4.35 -7.15,4.65
  rectangle: -8.2,3.85 -7.15,4.15
  rectangle: -8.2,3.35 -7.15,3.65
  rectangle: -8.2,2.85 -7.15,3.15
  rectangle: -8.2,2.35 -7.15,2.65
  rectangle: -8.2,1.85 -7.15,2.15
  rectangle: -8.2,1.35 -7.15,1.65
  rectangle: -8.2,0.85 -7.15,1.15
  rectangle: -8.2,0.35 -7.15,0.65
  rectangle: -8.2,-0.15 -7.15,0.15
  rectangle: -8.2,-0.65 -7.15,-0.35
  rectangle: -8.2,-1.15 -7.15,-0.85
  rectangle: -8.2,-1.65 -7.15,-1.35
  rectangle: -8.2,-2.15 -7.15,-1.85
  rectangle: -8.2,-2.65 -7.15,-2.35
  rectangle: -8.2,-3.15 -7.15,-2.85
  rectangle: -8.2,-3.65 -7.15,-3.35
  rectangle: -8.2,-4.15 -7.15,-3.85
  rectangle: -8.2,-4.65 -7.15,-4.35
  rectangle: -8.2,-5.15 -7.15,-4.85
  rectangle: -8.2,-5.65 -7.15,-5.35
  rectangle: -8.2,-6.15 -7.15,-5.85
  rectangle: -6.15,-8.2 -5.85,-7.15
  rectangle: -5.65,-8.2 -5.35,-7.15
  rectangle: -5.15,-8.2 -4.85,-7.15
  rectangle: -4.65,-8.2 -4.35,-7.15
  rectangle: -4.15,-8.2 -3.85,-7.15
  rectangle: -3.65,-8.2 -3.35,-7.15
  rectangle: -3.15,-8.2 -2.85,-7.15
  rectangle: -2.65,-8.2 -2.35,-7.15
  rectangle: -2.15,-8.2 -1.85,-7.15
  rectangle: -1.65,-8.2 -1.35,-7.15
  rectangle: -1.15,-8.2 -0.85,-7.15
  rectangle: -0.65,-8.2 -0.35,-7.15
  rectangle: -0.15,-8.2 0.15,-7.15
  rectangle: 0.35,-8.2 0.65,-7.15
  rectangle: 0.85,-8.2 1.15,-7.15
  rectangle: 1.35,-8.2 1.65,-7.15
  rectangle: 1.85,-8.2 2.15,-7.15
  rectangle: 2.35,-8.2 2.65,-7.15
  rectangle: 2.85,-8.2 3.15,-7.15
  rectangle: 3.35,-8.2 3.65,-7.15
  rectangle: 3.85,-8.2 4.15,-7.15
  rectangle: 4.35,-8.2 4.65,-7.15
  rectangle: 4.85,-8.2 5.15,-7.15
  rectangle: 5.35,-8.2 5.65,-7.15
  rectangle: 5.85,-8.2 6.15,-7.15
  rectangle: 7.15,-6.15 8.2,-5.85
  rectangle: 7.15,-5.65 8.2,-5.35
  rectangle: 7.15,-5.15 8.2,-4.85
  rectangle: 7.15,-4.65 8.2,-4.35
  rectangle: 7.15,-4.15 8.2,-3.85
  rectangle: 7.15,-3.65 8.2,-3.35
  rectangle: 7.15,-3.15 8.2,-2.85
  rectangle: 7.15,-2.65 8.2,-2.35
  rectangle: 7.15,-2.15 8.2,-1.85
  rectangle: 7.15,-1.65 8.2,-1.35
  rectangle: 7.15,-1.15 8.2,-0.85
  rectangle: 7.15,-0.65 8.2,-0.35
  rectangle: 7.15,-0.15 8.2,0.15
  rectangle: 7.15,0.35 8.2,0.65
  rectangle: 7.15,0.85 8.2,1.15
  rectangle: 7.15,1.35 8.2,1.65
  rectangle: 7.15,1.85 8.2,2.15
  rectangle: 7.15,2.35 8.2,2.65
  rectangle: 7.15,2.85 8.2,3.15
  rectangle: 7.15,3.35 8.2,3.65
  rectangle: 7.15,3.85 8.2,4.15
  rectangle: 7.15,4.35 8.2,4.65
  rectangle: 7.15,4.85 8.2,5.15
  rectangle: 7.15,5.35 8.2,5.65
  rectangle: 7.15,5.85 8.2,6.15
  rectangle: 5.85,7.15 6.15,8.2
  rectangle: 5.35,7.15 5.65,8.2
  rectangle: 4.85,7.15 5.15,8.2
  rectangle: 4.35,7.15 4.65,8.2
  rectangle: 3.85,7.15 4.15,8.2
  rectangle: 3.35,7.15 3.65,8.2
  rectangle: 2.85,7.15 3.15,8.2
  rectangle: 2.35,7.15 2.65,8.2
  rectangle: 1.85,7.15 2.15,8.2
  rectangle: 1.35,7.15 1.65,8.2
  rectangle: 0.85,7.15 1.15,8.2
  rectangle: 0.35,7.15 0.65,8.2
  rectangle: -0.15,7.15 0.15,8.2
  rectangle: -0.65,7.15 -0.35,8.2
  rectangle: -1.15,7.15 -0.85,8.2
  rectangle: -1.65,7.15 -1.35,8.2
  rectangle: -2.15,7.15 -1.85,8.2
  rectangle: -2.65,7.15 -2.35,8.2
  rectangle: -3.15,7.15 -2.85,8.2
  rectangle: -3.65,7.15 -3.35,8.2
  rectangle: -4.15,7.15 -3.85,8.2
  rectangle: -4.65,7.15 -4.35,8.2
  rectangle: -5.15,7.15 -4.85,8.2
  rectangle: -5.65,7.15 -5.35,8.2
  rectangle: -6.15,7.15 -5.85,8.2

## TQFP128 [mm]
pads (128):
  rect 1x0.25 smd: 1(-7.6,6.2) 2(-7.6,5.8) 3(-7.6,5.4) 4(-7.6,5) 5(-7.6,4.6) 6(-7.6,4.2) 7(-7.6,3.8) 8(-7.6,3.4) 9(-7.6,3) 10(-7.6,2.6) 11(-7.6,2.2) 12(-7.6,1.8) 13(-7.6,1.4) 14(-7.6,1) 15(-7.6,0.6) 16(-7.6,0.2) 17(-7.6,-0.2) 18(-7.6,-0.6) 19(-7.6,-1) 20(-7.6,-1.4) 21(-7.6,-1.8) 22(-7.6,-2.2) 23(-7.6,-2.6) 24(-7.6,-3) 25(-7.6,-3.4) 26(-7.6,-3.8) 27(-7.6,-4.2) 28(-7.6,-4.6) 29(-7.6,-5) 30(-7.6,-5.4) 31(-7.6,-5.8) 32(-7.6,-6.2) 65(7.6,-6.2) 66(7.6,-5.8) 67(7.6,-5.4) 68(7.6,-5) 69(7.6,-4.6) 70(7.6,-4.2) 71(7.6,-3.8) 72(7.6,-3.4) 73(7.6,-3) 74(7.6,-2.6) 75(7.6,-2.2) 76(7.6,-1.8) 77(7.6,-1.4) 78(7.6,-1) 79(7.6,-0.6) 80(7.6,-0.2) 81(7.6,0.2) 82(7.6,0.6) 83(7.6,1) 84(7.6,1.4) 85(7.6,1.8) 86(7.6,2.2) 87(7.6,2.6) 88(7.6,3) 89(7.6,3.4) 90(7.6,3.8) 91(7.6,4.2) 92(7.6,4.6) 93(7.6,5) 94(7.6,5.4) 95(7.6,5.8) 96(7.6,6.2)
  rect 0.25x1 smd: 33(-6.2,-7.6) 34(-5.8,-7.6) 35(-5.4,-7.6) 36(-5,-7.6) 37(-4.6,-7.6) 38(-4.2,-7.6) 39(-3.8,-7.6) 40(-3.4,-7.6) 41(-3,-7.6) 42(-2.6,-7.6) 43(-2.2,-7.6) 44(-1.8,-7.6) 45(-1.4,-7.6) 46(-1,-7.6) 47(-0.6,-7.6) 48(-0.2,-7.6) 49(0.2,-7.6) 50(0.6,-7.6) 51(1,-7.6) 52(1.4,-7.6) 53(1.8,-7.6) 54(2.2,-7.6) 55(2.6,-7.6) 56(3,-7.6) 57(3.4,-7.6) 58(3.8,-7.6) 59(4.2,-7.6) 60(4.6,-7.6) 61(5,-7.6) 62(5.4,-7.6) 63(5.8,-7.6) 64(6.2,-7.6) 97(6.2,7.6) 98(5.8,7.6) 99(5.4,7.6) 100(5,7.6) 101(4.6,7.6) 102(4.2,7.6) 103(3.8,7.6) 104(3.4,7.6) 105(3,7.6) 106(2.6,7.6) 107(2.2,7.6) 108(1.8,7.6) 109(1.4,7.6) 110(1,7.6) 111(0.6,7.6) 112(0.2,7.6) 113(-0.2,7.6) 114(-0.6,7.6) 115(-1,7.6) 116(-1.4,7.6) 117(-1.8,7.6) 118(-2.2,7.6) 119(-2.6,7.6) 120(-3,7.6) 121(-3.4,7.6) 122(-3.8,7.6) 123(-4.2,7.6) 124(-4.6,7.6) 125(-5,7.6) 126(-5.4,7.6) 127(-5.8,7.6) 128(-6.2,7.6)
Top Overlay:
  circle w0.203: c-6,6 r0.4
  lines w0.203: -6.9,-6.9 6.9,-6.9 6.9,6.9 -6.9,6.9 -6.9,-6.9
Mechanical 16:
  rectangle: -8,6.09 -6.98,6.31
  rectangle: -8,5.69 -6.98,5.91
  rectangle: -8,5.29 -6.98,5.51
  rectangle: -8,4.89 -6.98,5.11
  rectangle: -8,4.49 -6.98,4.71
  rectangle: -8,4.09 -6.98,4.31
  rectangle: -8,3.69 -6.98,3.91
  rectangle: -8,3.29 -6.98,3.51
  rectangle: -8,2.89 -6.98,3.11
  rectangle: -8,2.49 -6.98,2.71
  rectangle: -8,2.09 -6.98,2.31
  rectangle: -8,1.69 -6.98,1.91
  rectangle: -8,1.29 -6.98,1.51
  rectangle: -8,0.89 -6.98,1.11
  rectangle: -8,0.49 -6.98,0.71
  rectangle: -8,0.09 -6.98,0.31
  rectangle: -8,-0.31 -6.98,-0.09
  rectangle: -8,-0.71 -6.98,-0.49
  rectangle: -8,-1.11 -6.98,-0.89
  rectangle: -8,-1.51 -6.98,-1.29
  rectangle: -8,-1.91 -6.98,-1.69
  rectangle: -8,-2.31 -6.98,-2.09
  rectangle: -8,-2.71 -6.98,-2.49
  rectangle: -8,-3.11 -6.98,-2.89
  rectangle: -8,-3.51 -6.98,-3.29
  rectangle: -8,-3.91 -6.98,-3.69
  rectangle: -8,-4.31 -6.98,-4.09
  rectangle: -8,-4.71 -6.98,-4.49
  rectangle: -8,-5.11 -6.98,-4.89
  rectangle: -8,-5.51 -6.98,-5.29
  rectangle: -8,-5.91 -6.98,-5.69
  rectangle: -8,-6.31 -6.98,-6.09
  rectangle: -6.31,-8 -6.09,-6.98
  rectangle: -5.91,-8 -5.69,-6.98
  rectangle: -5.51,-8 -5.29,-6.98
  rectangle: -5.11,-8 -4.89,-6.98
  rectangle: -4.71,-8 -4.49,-6.98
  rectangle: -4.31,-8 -4.09,-6.98
  rectangle: -3.91,-8 -3.69,-6.98
  rectangle: -3.51,-8 -3.29,-6.98
  rectangle: -3.11,-8 -2.89,-6.98
  rectangle: -2.71,-8 -2.49,-6.98
  rectangle: -2.31,-8 -2.09,-6.98
  rectangle: -1.91,-8 -1.69,-6.98
  rectangle: -1.51,-8 -1.29,-6.98
  rectangle: -1.11,-8 -0.89,-6.98
  rectangle: -0.71,-8 -0.49,-6.98
  rectangle: -0.31,-8 -0.09,-6.98
  rectangle: 0.09,-8 0.31,-6.98
  rectangle: 0.49,-8 0.71,-6.98
  rectangle: 0.89,-8 1.11,-6.98
  rectangle: 1.29,-8 1.51,-6.98
  rectangle: 1.69,-8 1.91,-6.98
  rectangle: 2.09,-8 2.31,-6.98
  rectangle: 2.49,-8 2.71,-6.98
  rectangle: 2.89,-8 3.11,-6.98
  rectangle: 3.29,-8 3.51,-6.98
  rectangle: 3.69,-8 3.91,-6.98
  rectangle: 4.09,-8 4.31,-6.98
  rectangle: 4.49,-8 4.71,-6.98
  rectangle: 4.89,-8 5.11,-6.98
  rectangle: 5.29,-8 5.51,-6.98
  rectangle: 5.69,-8 5.91,-6.98
  rectangle: 6.09,-8 6.31,-6.98
  rectangle: 6.98,-6.31 8,-6.09
  rectangle: 6.98,-5.91 8,-5.69
  rectangle: 6.98,-5.51 8,-5.29
  rectangle: 6.98,-5.11 8,-4.89
  rectangle: 6.98,-4.71 8,-4.49
  rectangle: 6.98,-4.31 8,-4.09
  rectangle: 6.98,-3.91 8,-3.69
  rectangle: 6.98,-3.51 8,-3.29
  rectangle: 6.98,-3.11 8,-2.89
  rectangle: 6.98,-2.71 8,-2.49
  rectangle: 6.98,-2.31 8,-2.09
  rectangle: 6.98,-1.91 8,-1.69
  rectangle: 6.98,-1.51 8,-1.29
  rectangle: 6.98,-1.11 8,-0.89
  rectangle: 6.98,-0.71 8,-0.49
  rectangle: 6.98,-0.31 8,-0.09
  rectangle: 6.98,0.09 8,0.31
  rectangle: 6.98,0.49 8,0.71
  rectangle: 6.98,0.89 8,1.11
  rectangle: 6.98,1.29 8,1.51
  rectangle: 6.98,1.69 8,1.91
  rectangle: 6.98,2.09 8,2.31
  rectangle: 6.98,2.49 8,2.71
  rectangle: 6.98,2.89 8,3.11
  rectangle: 6.98,3.29 8,3.51
  rectangle: 6.98,3.69 8,3.91
  rectangle: 6.98,4.09 8,4.31
  rectangle: 6.98,4.49 8,4.71
  rectangle: 6.98,4.89 8,5.11
  rectangle: 6.98,5.29 8,5.51
  rectangle: 6.98,5.69 8,5.91
  rectangle: 6.98,6.09 8,6.31
  rectangle: 6.09,6.98 6.31,8
  rectangle: 5.69,6.98 5.91,8
  rectangle: 5.29,6.98 5.51,8
  rectangle: 4.89,6.98 5.11,8
  rectangle: 4.49,6.98 4.71,8
  rectangle: 4.09,6.98 4.31,8
  rectangle: 3.69,6.98 3.91,8
  rectangle: 3.29,6.98 3.51,8
  rectangle: 2.89,6.98 3.11,8
  rectangle: 2.49,6.98 2.71,8
  rectangle: 2.09,6.98 2.31,8
  rectangle: 1.69,6.98 1.91,8
  rectangle: 1.29,6.98 1.51,8
  rectangle: 0.89,6.98 1.11,8
  rectangle: 0.49,6.98 0.71,8
  rectangle: 0.09,6.98 0.31,8
  rectangle: -0.31,6.98 -0.09,8
  rectangle: -0.71,6.98 -0.49,8
  rectangle: -1.11,6.98 -0.89,8
  rectangle: -1.51,6.98 -1.29,8
  rectangle: -1.91,6.98 -1.69,8
  rectangle: -2.31,6.98 -2.09,8
  rectangle: -2.71,6.98 -2.49,8
  rectangle: -3.11,6.98 -2.89,8
  rectangle: -3.51,6.98 -3.29,8
  rectangle: -3.91,6.98 -3.69,8
  rectangle: -4.31,6.98 -4.09,8
  rectangle: -4.71,6.98 -4.49,8
  rectangle: -5.11,6.98 -4.89,8
  rectangle: -5.51,6.98 -5.29,8
  rectangle: -5.91,6.98 -5.69,8
  rectangle: -6.31,6.98 -6.09,8

## TQFP144 [mm]
pads (144):
  rect 0.9x0.3 smd: 1(-10.75,8.75) 2(-10.75,8.25) 3(-10.75,7.75) 4(-10.75,7.25) 5(-10.75,6.75) 6(-10.75,6.25) 7(-10.75,5.75) 8(-10.75,5.25) 9(-10.75,4.75) 10(-10.75,4.25) 11(-10.75,3.75) 12(-10.75,3.25) 13(-10.75,2.75) 14(-10.75,2.25) 15(-10.75,1.75) 16(-10.75,1.25) 17(-10.75,0.75) 18(-10.75,0.25) 19(-10.75,-0.25) 20(-10.75,-0.75) 21(-10.75,-1.25) 22(-10.75,-1.75) 23(-10.75,-2.25) 24(-10.75,-2.75) 25(-10.75,-3.25) 26(-10.75,-3.75) 27(-10.75,-4.25) 28(-10.75,-4.75) 29(-10.75,-5.25) 30(-10.75,-5.75) 31(-10.75,-6.25) 32(-10.75,-6.75) 33(-10.75,-7.25) 34(-10.75,-7.75) 35(-10.75,-8.25) 36(-10.75,-8.75) 73(10.75,-8.75) 74(10.75,-8.25) 75(10.75,-7.75) 76(10.75,-7.25) 77(10.75,-6.75) 78(10.75,-6.25) 79(10.75,-5.75) 80(10.75,-5.25) 81(10.75,-4.75) 82(10.75,-4.25) 83(10.75,-3.75) 84(10.75,-3.25) 85(10.75,-2.75) 86(10.75,-2.25) 87(10.75,-1.75) 88(10.75,-1.25) 89(10.75,-0.75) 90(10.75,-0.25) 91(10.75,0.25) 92(10.75,0.75) 93(10.75,1.25) 94(10.75,1.75) 95(10.75,2.25) 96(10.75,2.75) 97(10.75,3.25) 98(10.75,3.75) 99(10.75,4.25) 100(10.75,4.75) 101(10.75,5.25) 102(10.75,5.75) 103(10.75,6.25) 104(10.75,6.75) 105(10.75,7.25) 106(10.75,7.75) 107(10.75,8.25) 108(10.75,8.75)
  rect 0.3x0.9 smd: 37(-8.75,-10.75) 38(-8.25,-10.75) 39(-7.75,-10.75) 40(-7.25,-10.75) 41(-6.75,-10.75) 42(-6.25,-10.75) 43(-5.75,-10.75) 44(-5.25,-10.75) 45(-4.75,-10.75) 46(-4.25,-10.75) 47(-3.75,-10.75) 48(-3.25,-10.75) 49(-2.75,-10.75) 50(-2.25,-10.75) 51(-1.75,-10.75) 52(-1.25,-10.75) 53(-0.75,-10.75) 54(-0.25,-10.75) 55(0.25,-10.75) 56(0.75,-10.75) 57(1.25,-10.75) 58(1.75,-10.75) 59(2.25,-10.75) 60(2.75,-10.75) 61(3.25,-10.75) 62(3.75,-10.75) 63(4.25,-10.75) 64(4.75,-10.75) 65(5.25,-10.75) 66(5.75,-10.75) 67(6.25,-10.75) 68(6.75,-10.75) 69(7.25,-10.75) 70(7.75,-10.75) 71(8.25,-10.75) 72(8.75,-10.75) 109(8.75,10.75) 110(8.25,10.75) 111(7.75,10.75) 112(7.25,10.75) 113(6.75,10.75) 114(6.25,10.75) 115(5.75,10.75) 116(5.25,10.75) 117(4.75,10.75) 118(4.25,10.75) 119(3.75,10.75) 120(3.25,10.75) 121(2.75,10.75) 122(2.25,10.75) 123(1.75,10.75) 124(1.25,10.75) 125(0.75,10.75) 126(0.25,10.75) 127(-0.25,10.75) 128(-0.75,10.75) 129(-1.25,10.75) 130(-1.75,10.75) 131(-2.25,10.75) 132(-2.75,10.75) 133(-3.25,10.75) 134(-3.75,10.75) 135(-4.25,10.75) 136(-4.75,10.75) 137(-5.25,10.75) 138(-5.75,10.75) 139(-6.25,10.75) 140(-6.75,10.75) 141(-7.25,10.75) 142(-7.75,10.75) 143(-8.25,10.75) 144(-8.75,10.75)
Top Overlay:
  lines w0.203: -9.898,9.4 -9.4,9.898 ; -9.898,-9.898 9.898,-9.898 9.898,9.898 -9.898,9.898 -9.898,-9.898
Mechanical 16:
  rectangle: -11,8.615 -10,8.885
  rectangle: -11,8.115 -10,8.385
  rectangle: -11,7.615 -10,7.885
  rectangle: -11,7.115 -10,7.385
  rectangle: -11,6.615 -10,6.885
  rectangle: -11,6.115 -10,6.385
  rectangle: -11,5.615 -10,5.885
  rectangle: -11,5.115 -10,5.385
  rectangle: -11,4.615 -10,4.885
  rectangle: -11,4.115 -10,4.385
  rectangle: -11,3.615 -10,3.885
  rectangle: -11,3.115 -10,3.385
  rectangle: -11,2.615 -10,2.885
  rectangle: -11,2.115 -10,2.385
  rectangle: -11,1.615 -10,1.885
  rectangle: -11,1.115 -10,1.385
  rectangle: -11,0.615 -10,0.885
  rectangle: -11,0.115 -10,0.385
  rectangle: -11,-0.385 -10,-0.115
  rectangle: -11,-0.885 -10,-0.615
  rectangle: -11,-1.385 -10,-1.115
  rectangle: -11,-1.885 -10,-1.615
  rectangle: -11,-2.385 -10,-2.115
  rectangle: -11,-2.885 -10,-2.615
  rectangle: -11,-3.385 -10,-3.115
  rectangle: -11,-3.885 -10,-3.615
  rectangle: -11,-4.385 -10,-4.115
  rectangle: -11,-4.885 -10,-4.615
  rectangle: -11,-5.385 -10,-5.115
  rectangle: -11,-5.885 -10,-5.615
  rectangle: -11,-6.385 -10,-6.115
  rectangle: -11,-6.885 -10,-6.615
  rectangle: -11,-7.385 -10,-7.115
  rectangle: -11,-7.885 -10,-7.615
  rectangle: -11,-8.385 -10,-8.115
  rectangle: -11,-8.885 -10,-8.615
  rectangle: -8.885,-11 -8.615,-10
  rectangle: -8.385,-11 -8.115,-10
  rectangle: -7.885,-11 -7.615,-10
  rectangle: -7.385,-11 -7.115,-10
  rectangle: -6.885,-11 -6.615,-10
  rectangle: -6.385,-11 -6.115,-10
  rectangle: -5.885,-11 -5.615,-10
  rectangle: -5.385,-11 -5.115,-10
  rectangle: -4.885,-11 -4.615,-10
  rectangle: -4.385,-11 -4.115,-10
  rectangle: -3.885,-11 -3.615,-10
  rectangle: -3.385,-11 -3.115,-10
  rectangle: -2.885,-11 -2.615,-10
  rectangle: -2.385,-11 -2.115,-10
  rectangle: -1.885,-11 -1.615,-10
  rectangle: -1.385,-11 -1.115,-10
  rectangle: -0.885,-11 -0.615,-10
  rectangle: -0.385,-11 -0.115,-10
  rectangle: 0.115,-11 0.385,-10
  rectangle: 0.615,-11 0.885,-10
  rectangle: 1.115,-11 1.385,-10
  rectangle: 1.615,-11 1.885,-10
  rectangle: 2.115,-11 2.385,-10
  rectangle: 2.615,-11 2.885,-10
  rectangle: 3.115,-11 3.385,-10
  rectangle: 3.615,-11 3.885,-10
  rectangle: 4.115,-11 4.385,-10
  rectangle: 4.615,-11 4.885,-10
  rectangle: 5.115,-11 5.385,-10
  rectangle: 5.615,-11 5.885,-10
  rectangle: 6.115,-11 6.385,-10
  rectangle: 6.615,-11 6.885,-10
  rectangle: 7.115,-11 7.385,-10
  rectangle: 7.615,-11 7.885,-10
  rectangle: 8.115,-11 8.385,-10
  rectangle: 8.615,-11 8.885,-10
  rectangle: 10,-8.885 11,-8.615
  rectangle: 10,-8.385 11,-8.115
  rectangle: 10,-7.885 11,-7.615
  rectangle: 10,-7.385 11,-7.115
  rectangle: 10,-6.885 11,-6.615
  rectangle: 10,-6.385 11,-6.115
  rectangle: 10,-5.885 11,-5.615
  rectangle: 10,-5.385 11,-5.115
  rectangle: 10,-4.885 11,-4.615
  rectangle: 10,-4.385 11,-4.115
  rectangle: 10,-3.885 11,-3.615
  rectangle: 10,-3.385 11,-3.115
  rectangle: 10,-2.885 11,-2.615
  rectangle: 10,-2.385 11,-2.115
  rectangle: 10,-1.885 11,-1.615
  rectangle: 10,-1.385 11,-1.115
  rectangle: 10,-0.885 11,-0.615
  rectangle: 10,-0.385 11,-0.115
  rectangle: 10,0.115 11,0.385
  rectangle: 10,0.615 11,0.885
  rectangle: 10,1.115 11,1.385
  rectangle: 10,1.615 11,1.885
  rectangle: 10,2.115 11,2.385
  rectangle: 10,2.615 11,2.885
  rectangle: 10,3.115 11,3.385
  rectangle: 10,3.615 11,3.885
  rectangle: 10,4.115 11,4.385
  rectangle: 10,4.615 11,4.885
  rectangle: 10,5.115 11,5.385
  rectangle: 10,5.615 11,5.885
  rectangle: 10,6.115 11,6.385
  rectangle: 10,6.615 11,6.885
  rectangle: 10,7.115 11,7.385
  rectangle: 10,7.615 11,7.885
  rectangle: 10,8.115 11,8.385
  rectangle: 10,8.615 11,8.885
  rectangle: 8.615,10 8.885,11
  rectangle: 8.115,10 8.385,11
  rectangle: 7.615,10 7.885,11
  rectangle: 7.115,10 7.385,11
  rectangle: 6.615,10 6.885,11
  rectangle: 6.115,10 6.385,11
  rectangle: 5.615,10 5.885,11
  rectangle: 5.115,10 5.385,11
  rectangle: 4.615,10 4.885,11
  rectangle: 4.115,10 4.385,11
  rectangle: 3.615,10 3.885,11
  rectangle: 3.115,10 3.385,11
  rectangle: 2.615,10 2.885,11
  rectangle: 2.115,10 2.385,11
  rectangle: 1.615,10 1.885,11
  rectangle: 1.115,10 1.385,11
  rectangle: 0.615,10 0.885,11
  rectangle: 0.115,10 0.385,11
  rectangle: -0.385,10 -0.115,11
  rectangle: -0.885,10 -0.615,11
  rectangle: -1.385,10 -1.115,11
  rectangle: -1.885,10 -1.615,11
  rectangle: -2.385,10 -2.115,11
  rectangle: -2.885,10 -2.615,11
  rectangle: -3.385,10 -3.115,11
  rectangle: -3.885,10 -3.615,11
  rectangle: -4.385,10 -4.115,11
  rectangle: -4.885,10 -4.615,11
  rectangle: -5.385,10 -5.115,11
  rectangle: -5.885,10 -5.615,11
  rectangle: -6.385,10 -6.115,11
  rectangle: -6.885,10 -6.615,11
  rectangle: -7.385,10 -7.115,11
  rectangle: -7.885,10 -7.615,11
  rectangle: -8.385,10 -8.115,11
  rectangle: -8.885,10 -8.615,11